# EAGLE library part 14A-20VA (library trafo-signal)
TRANSFORMER
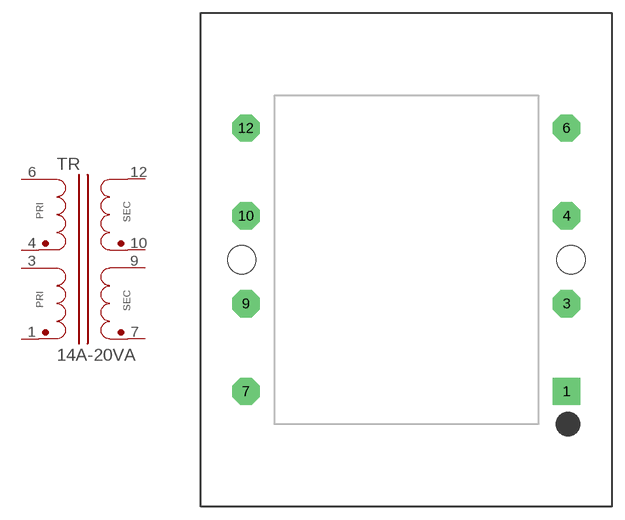
[diagram p5: symbol with the pads of 14A-20VA; footprint 14A-20VA]

Designator prefix TR

## 14A-20VA  [14A-20VA]
1  1  pas
3  3  pas
4  4  pas
6  6  pas
7  7  pas
9  9  pas
10  10  pas
12  12  pas

## Footprint 14A-20VA (pad centres in mm)
14A Series - 20VA
drill 1.676 pad 3.175 square: 1 18.542,-15.24
drill 1.676 pad 3.175 octagon: 3 18.542,-5.08; 4 18.542,5.08; 6 18.542,15.24; 7 -18.542,-15.24; 9 -18.542,-5.08; 10 -18.542,5.08; 12 -18.542,15.24
hole 3.251 at -19.05,0
hole 3.251 at 19.05,0